# Altium footprint library Teccor Electronics Footprints.PcbLib: 3 footprints
Each footprint in its own frame and in the unit in brackets; x right, y up, seen from the top. Pads: shape width x height; smd on the part's side, far side on the other; paste and mask are expansions set on the pad; w line width, h text height; cw(c..) or ccw(c..) is an arc to the next point about the centre after c.
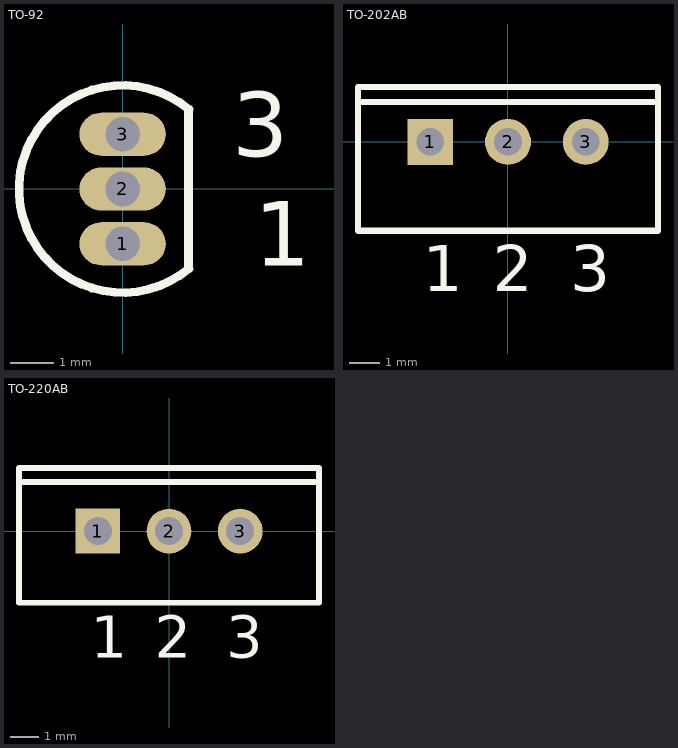
[diagram p0: the footprints below, top view; thin cyan lines are the x and y axes]

## TO-92 [mm] "TO, Flat Index; 3 In-Line, Axial Leads; Body Dia. 4.6mm; Leads 0.48 x 0.43 mm (max)"
height 4.98
pads (3):
  oval 2x1 hole 0.8: 1(0,-1.27) 2(0,0) 3(0,1.27)
Top Overlay:
  lines w0.2: 1.526,-1.801 1.526,1.799 ; 1.536,-1.844 cw(c0,0) 1.536,1.844
  text "1" at 3.048,-1.778 h1.5
  text "3" at 2.54,0.762 h1.5

## TO-202AB [mm] "TO, Thru-Hole, Vertical, Heatsink Mounted; 3 In-Line Leads; Pitch 2.54 mm"
height 22.2
pads (3):
  rect 1.5x1.5 hole 0.9: 1(-2.54,0)
  round 1.5 hole 0.9: 2(0,0) 3(2.54,0)
Top Overlay:
  lines w0.2: -4.9,1.3 4.9,1.3 ; -4.9,-2.9 -4.9,1.8 4.9,1.8 4.9,-2.9 -4.9,-2.9
  text "3" at 2.04,-4.875 h1.5
  text "2" at -0.5,-4.875 h1.5
  text "1" at -2.79,-4.875 h1.5

## TO-220AB [mm] "TO, Thru-Hole, Vertical, Heatsink Mounted; 3 In-Line Leads; Pitch 2.54 mm"
height 19.1
pads (3):
  rect 1.6x1.6 hole 1: 1(-2.54,0)
  round 1.6 hole 1: 2(0,0) 3(2.54,0)
Top Overlay:
  lines w0.2: -5.35,1.75 5.35,1.75 ; -5.35,-2.55 -5.35,2.25 5.35,2.25 5.35,-2.55 -5.35,-2.55
  text "3" at 2.04,-4.525 h1.5
  text "2" at -0.5,-4.525 h1.5
  text "1" at -2.79,-4.525 h1.5